# EAGLE library part EA-DOGXL240W-7 (library EA-DOGXL240W-7)
EA DOGXL240W-7 240x128 COG LCD Display Display Visions / Electronic Assembly 240x128 FSTN Positive Transflective, UC1611S controller Interfaces: 3-wire SPI, 4-wire SPI, I2C Supply: 2.7-3.3V, 40-pin SIP 2.54mm Operating temp: -20..+70 C Source: Datasheet (PDF) <https://www.lcd-module.com/fileadmin/eng/pdf/grafik/dogxl240-7e.pdf>
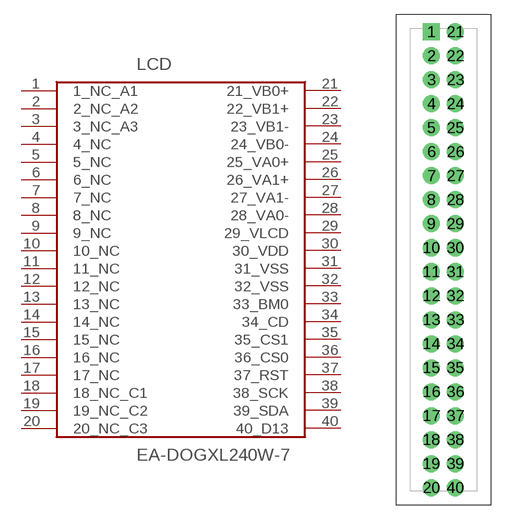
[diagram p0: symbol with the pads of SIP40_P254; footprint SIP40_P254]

Designator prefix LCD

## EA-DOGXL240W-7 (DESCRIPTION: EA DOGXL240W-7 240x128 COG LCD, FSTN, UC1611S, SPI/I2C, 3.3V; HEIGHT: 6.5mm; MANUFACTURER_NAME: Display Visions; MANUFACTURER_PART_NUMBER: EA DOGXL240W-7)  [SIP40_P254]
1  1_NC_A1  nc
2  2_NC_A2  nc
3  3_NC_A3  nc
4  4_NC  nc
5  5_NC  nc
6  6_NC  nc
7  7_NC  nc
8  8_NC  nc
9  9_NC  nc
10  10_NC  nc
11  11_NC  nc
12  12_NC  nc
13  13_NC  nc
14  14_NC  nc
15  15_NC  nc
16  16_NC  nc
17  17_NC  nc
18  18_NC_C1  nc
19  19_NC_C2  nc
20  20_NC_C3  nc
21  21_VB0+
22  22_VB1+
23  23_VB1-
24  24_VB0-
25  25_VA0+
26  26_VA1+
27  27_VA1-
28  28_VA0-
29  29_VLCD
30  30_VDD  pwr
31  31_VSS  pwr
32  32_VSS  pwr
33  33_BM0
34  34_CD
35  35_CS1
36  36_CS0
37  37_RST
38  38_SCK
39  39_SDA
40  40_D13

## Footprint SIP40_P254 (pad centres in mm)
40-pin SIP, 2.54mm pitch, vertical mount EA DOGXL240-7 display module connector Left row: pins 1-20, Right row: pins 21-40
drill 1 pad 1.8 square: 1 -1.27,24.13
drill 1 pad 1.8: 2 -1.27,21.59; 3 -1.27,19.05; 4 -1.27,16.51; 5 -1.27,13.97; 6 -1.27,11.43; 7 -1.27,8.89; 8 -1.27,6.35; 9 -1.27,3.81; 10 -1.27,1.27; 11 -1.27,-1.27; 12 -1.27,-3.81; 13 -1.27,-6.35; 14 -1.27,-8.89; 15 -1.27,-11.43; 16 -1.27,-13.97; 17 -1.27,-16.51; 18 -1.27,-19.05; 19 -1.27,-21.59; 20 -1.27,-24.13; 21 1.27,24.13; 22 1.27,21.59; 23 1.27,19.05; 24 1.27,16.51; 25 1.27,13.97; 26 1.27,11.43; 27 1.27,8.89; 28 1.27,6.35; 29 1.27,3.81; 30 1.27,1.27; 31 1.27,-1.27; 32 1.27,-3.81; 33 1.27,-6.35; 34 1.27,-8.89; 35 1.27,-11.43; 36 1.27,-13.97; 37 1.27,-16.51; 38 1.27,-19.05; 39 1.27,-21.59; 40 1.27,-24.13